# EAGLE library part STF202-22T1G (library stf202_10)
USB Filter with ESD Protection Source: http://www.onsemi.com/pub_link/Collateral/STF202-22T1-D.PDF
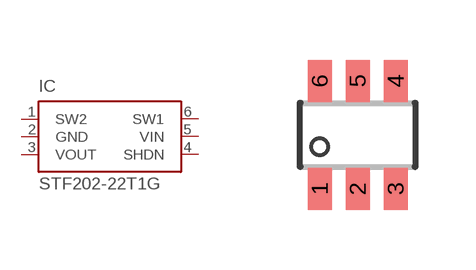
[diagram p0: symbol with the pads of SOT23-6; footprint SOT23-6]

Designator prefix IC

## STF202-22T1G (MF: ON Semiconductor; MPN: STF202-22T1G; OC_FARNELL: 1651958; OC_NEWARK: 45J2271)  [SOT23-6]
1  SW2  pas
2  GND  pas
3  VOUT  pas
4  SHDN  pas
5  VIN  pas
6  SW1  pas

## Footprint SOT23-6 (pad centres in mm)
SOT-23-6 (TSOP-6) Plastic Small Outline - 6-Lead Package
smd 0.6 x 1.05: 1 -0.95,-1.35; 2 0,-1.35; 3 0.95,-1.35; 4 0.95,1.35; 5 0,1.35; 6 -0.95,1.35